# Altium footprint library конденсаторы.PcbLib: 48 footprints (part 2 of 3)
Each footprint in its own frame and in the unit in brackets; x right, y up, seen from the top. Pads: shape width x height; smd on the part's side, far side on the other; paste and mask are expansions set on the pad; w line width, h text height; cw(c..) or ccw(c..) is an arc to the next point about the centre after c.
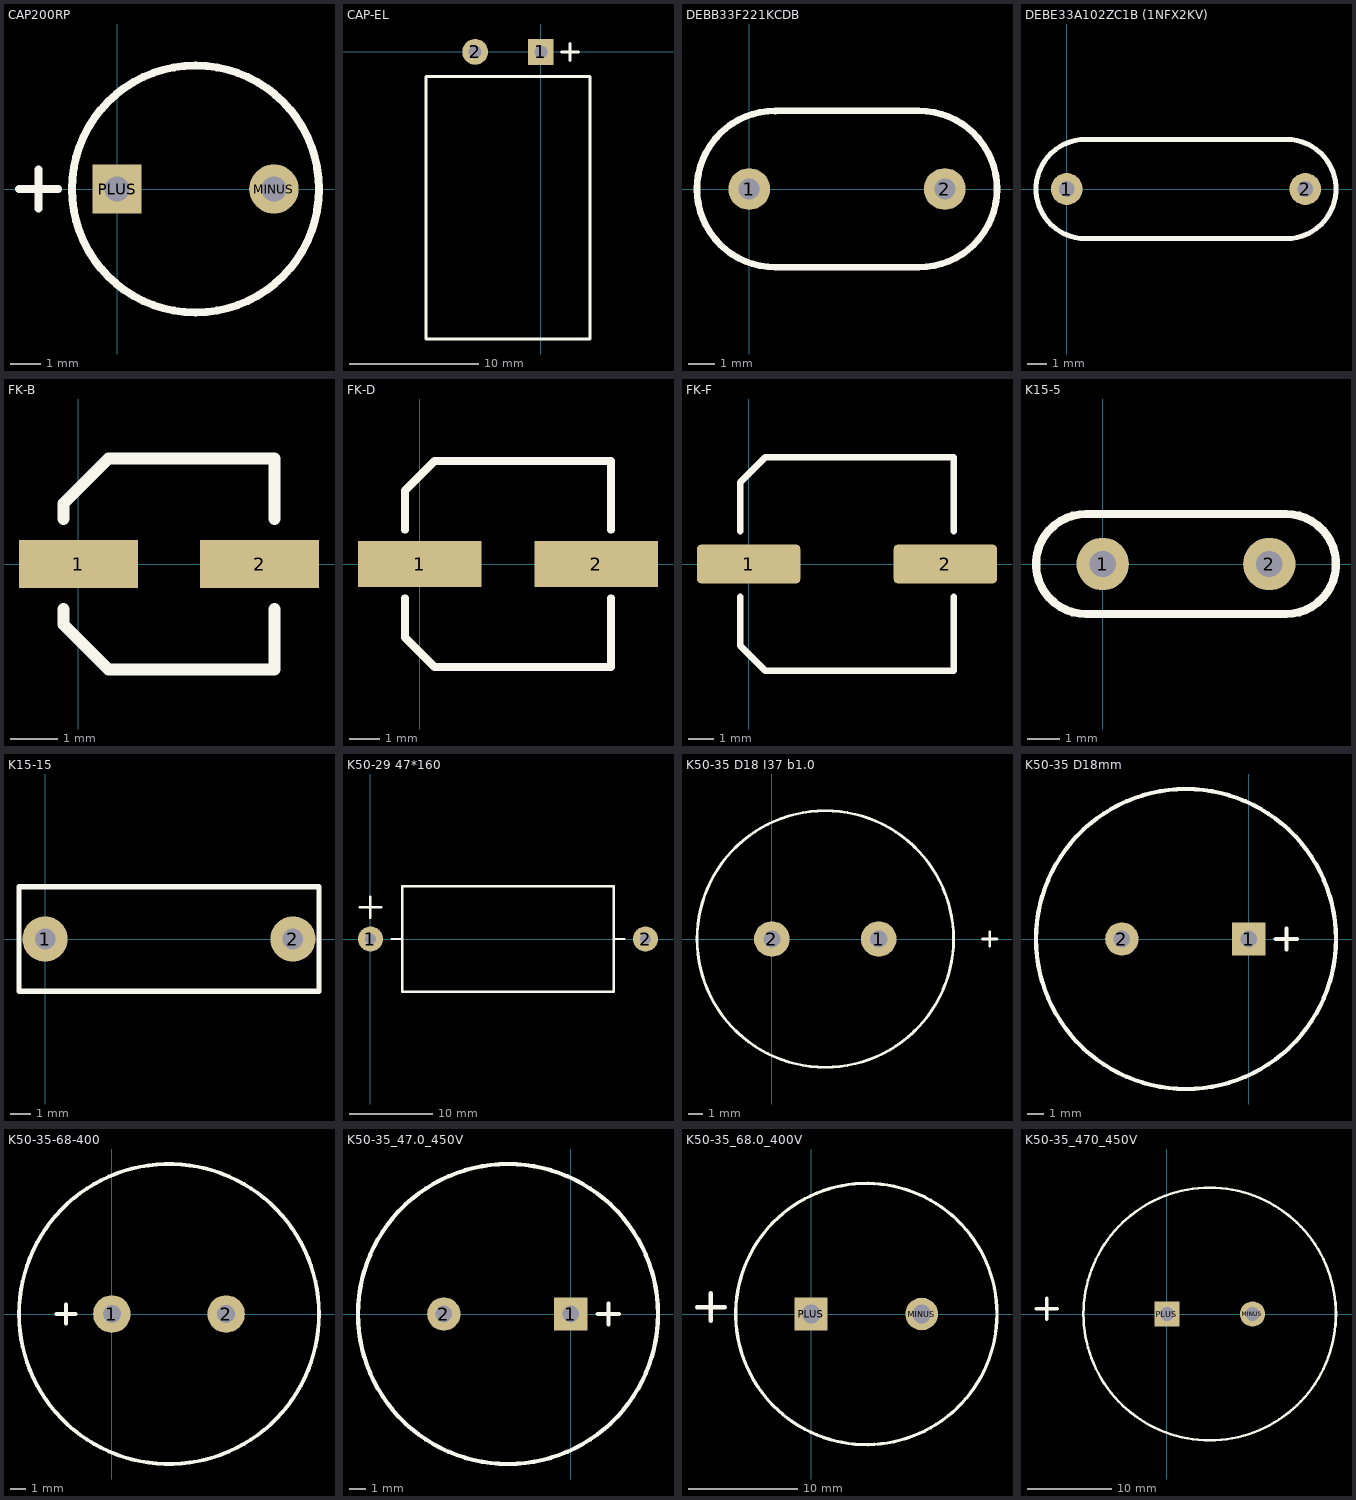
[diagram p1: the footprints below, top view; thin cyan lines are the x and y axes]

## CAP200RP [mm]
pads (2):
  round 1.6 hole 0.8: MINUS(5.08,0)
  rect 1.6x1.6 hole 0.8: PLUS(0,0)
Top Overlay:
  circle w0.254: c2.54,0 r4
  lines w0.254: -3.175,0 -1.905,0 ; -2.54,-0.635 -2.54,0.635

## CAP-EL [mm]
pads (2):
  rect 2x2 hole 1: 1(0,0)
  round 2 hole 1: 2(-5.08,0)
Top Overlay:
  lines w0.254: 1.621,0 2.893,0 ; 2.257,-0.634 2.257,0.634 ; -8.89,-22.225 -8.89,-1.905 3.81,-1.905 3.81,-22.225 -8.89,-22.225

## DEBB33F221KCDB [mm] "220x3kV Меж. выв. 7.5, толщина 6, диам. диска 5"
pads (2):
  round 1.6 hole 0.8: 1(0,0) 2(7.5,0)
Top Overlay:
  lines w0.254: 1,2.991 6.5,2.999 cw(c6.5,0) 6.5,-3 1,-3 cw(c1,0) 1,3
3D body "User Library-DEBB33A472KA3B.SLDPRT": height 16, standoff -3, extent -2.25,-1.989 9.75,1.99

## DEBE33A102ZC1B (1NFX2KV) [mm]
pads (2):
  round 1.6 hole 0.8: 1(0,0) 2(12,0)
Top Overlay:
  lines w0.254: 0.9,-2.5 11.1,-2.5 ; 0.9,2.5 11.1,2.5 ; 0.952,-2.5 cw(c0.952,0) 0.952,2.5 ; 11.048,-2.5 ccw(c11.048,0) 11.048,2.5

## FK-B [mm]
pads (2):
  rect 2.5x1 smd: 1(0,0) 2(3.81,0)
Top Overlay:
  lines w0.254: -0.318,-0.953 -0.318,-1.27 0.635,-2.222 4.127,-2.222 4.127,-0.953 ; -0.318,0.953 -0.318,1.27 0.635,2.222 4.127,2.222 4.127,0.953

## FK-D [mm]
pads (2):
  rect 4x1.5 smd: 1(0,0) 2(5.715,0)
Top Overlay:
  lines w0.254: -0.476,-1.111 -0.476,-2.381 0.476,-3.334 6.191,-3.334 6.191,-1.111 ; -0.476,1.111 -0.476,2.381 0.476,3.334 6.191,3.334 6.191,1.111

## FK-F [mm]
pads (2):
  rrect20% 4x1.5 smd: 1(0,0) 2(7.62,0)
Top Overlay:
  lines w0.254: -0.318,-1.27 -0.318,-3.175 0.635,-4.127 7.938,-4.127 7.938,-1.27 ; -0.318,1.27 -0.318,3.175 0.635,4.127 7.938,4.127 7.938,1.27
3D body "User Library-FKF.STEP": height 10.02, standoff -0.02, extent -1.15,-4.15 8.75,4.15

## K15-5 [mm]
pads (2):
  round 1.6 hole 0.8: 1(0,0) 2(5.08,0)
Top Overlay:
  lines w0.254: -0.508,-1.524 cw(c-0.508,0) -0.508,1.524 5.588,1.524 cw(c5.588,0) 5.588,-1.524 -0.508,-1.524

## K15-15 [mm]
pads (2):
  round 2.2 hole 1: 1(0,0) 2(12.065,0)
Top Overlay:
  lines w0.254: -1.27,-2.54 13.335,-2.54 13.335,2.54 -1.27,2.54 -1.27,-2.54

## K50-29 47*160 [mm]
pads (2):
  round 3 hole 1.3: 1(0,0) 2(33.02,0)
Top Overlay:
  lines w0.3: -1.27,3.81 1.27,3.81 ; 0,2.54 0,5.08 ; 2.54,0 3.81,0 ; 29.21,0 30.48,0 ; 3.81,-6.35 29.21,-6.35 29.21,6.35 3.81,6.35 3.81,-6.35

## K50-35 D18 I37 b1.0 [mm] "D корпуса 18мм, Высота 35+2мм, D выводов 1.0мм"
height 37
pads (2):
  round 2.5 hole 1.2: 1(7.5,0) 2(0,0)
Top Overlay:
  circle w0.2: c3.75,0 r9
  lines w0.2: 14.782,0 15.798,0 ; 15.29,-0.508 15.29,0.508
3D body "User Library-CapAluRadial_D180H355P75.SLDPRT": height 35.5, standoff -3, extent -5.191,-8.996 12.81,8.996

## K50-35 D18mm [mm]
pads (2):
  rect 2x2 hole 1: 1(0,0)
  round 2 hole 1: 2(-7.62,0)
Top Overlay:
  circle w0.254: c-3.771,0 r9
  lines w0.254: 1.621,0 2.893,0 ; 2.257,-0.634 2.257,0.634

## K50-35-68-400 [mm]
pads (2):
  round 2.5 hole 1.2: 1(0,0) 2(7.62,0)
Top Overlay:
  circle w0.254: c3.81,0 r10
  lines w0.254: -3.693,0 -2.421,0 ; -3.057,-0.636 -3.057,0.636

## K50-35_47.0_450V [mm]
pads (2):
  rect 2x2 hole 1: 1(0,0)
  round 2 hole 1: 2(-7.62,0)
Top Overlay:
  circle w0.254: c-3.771,0 r9
  lines w0.254: 1.621,0 2.893,0 ; 2.257,-0.634 2.257,0.634

## K50-35_68.0_400V [mm]
pads (2):
  round 3 hole 1.7: MINUS(10.16,0)
  rect 3x3 hole 1.7: PLUS(0,0)
Top Overlay:
  circle w0.3: c5.08,0 r12
  lines w0.4: -10.477,0.635 -7.938,0.635 ; -9.207,-0.635 -9.207,1.905

## K50-35_470_450V [mm]
pads (2):
  round 3 hole 1.7: MINUS(10.16,0)
  rect 3x3 hole 1.7: PLUS(0,0)
Top Overlay:
  circle w0.3: c5.08,0 r15
  lines w0.4: -15.557,0.635 -13.018,0.635 ; -14.287,-0.635 -14.287,1.905